# Altium schematic symbol library Senior_SCH_Lib.SchLib: 23 symbols
Pins are listed as number, name and electrical type; pins without a type are passive.

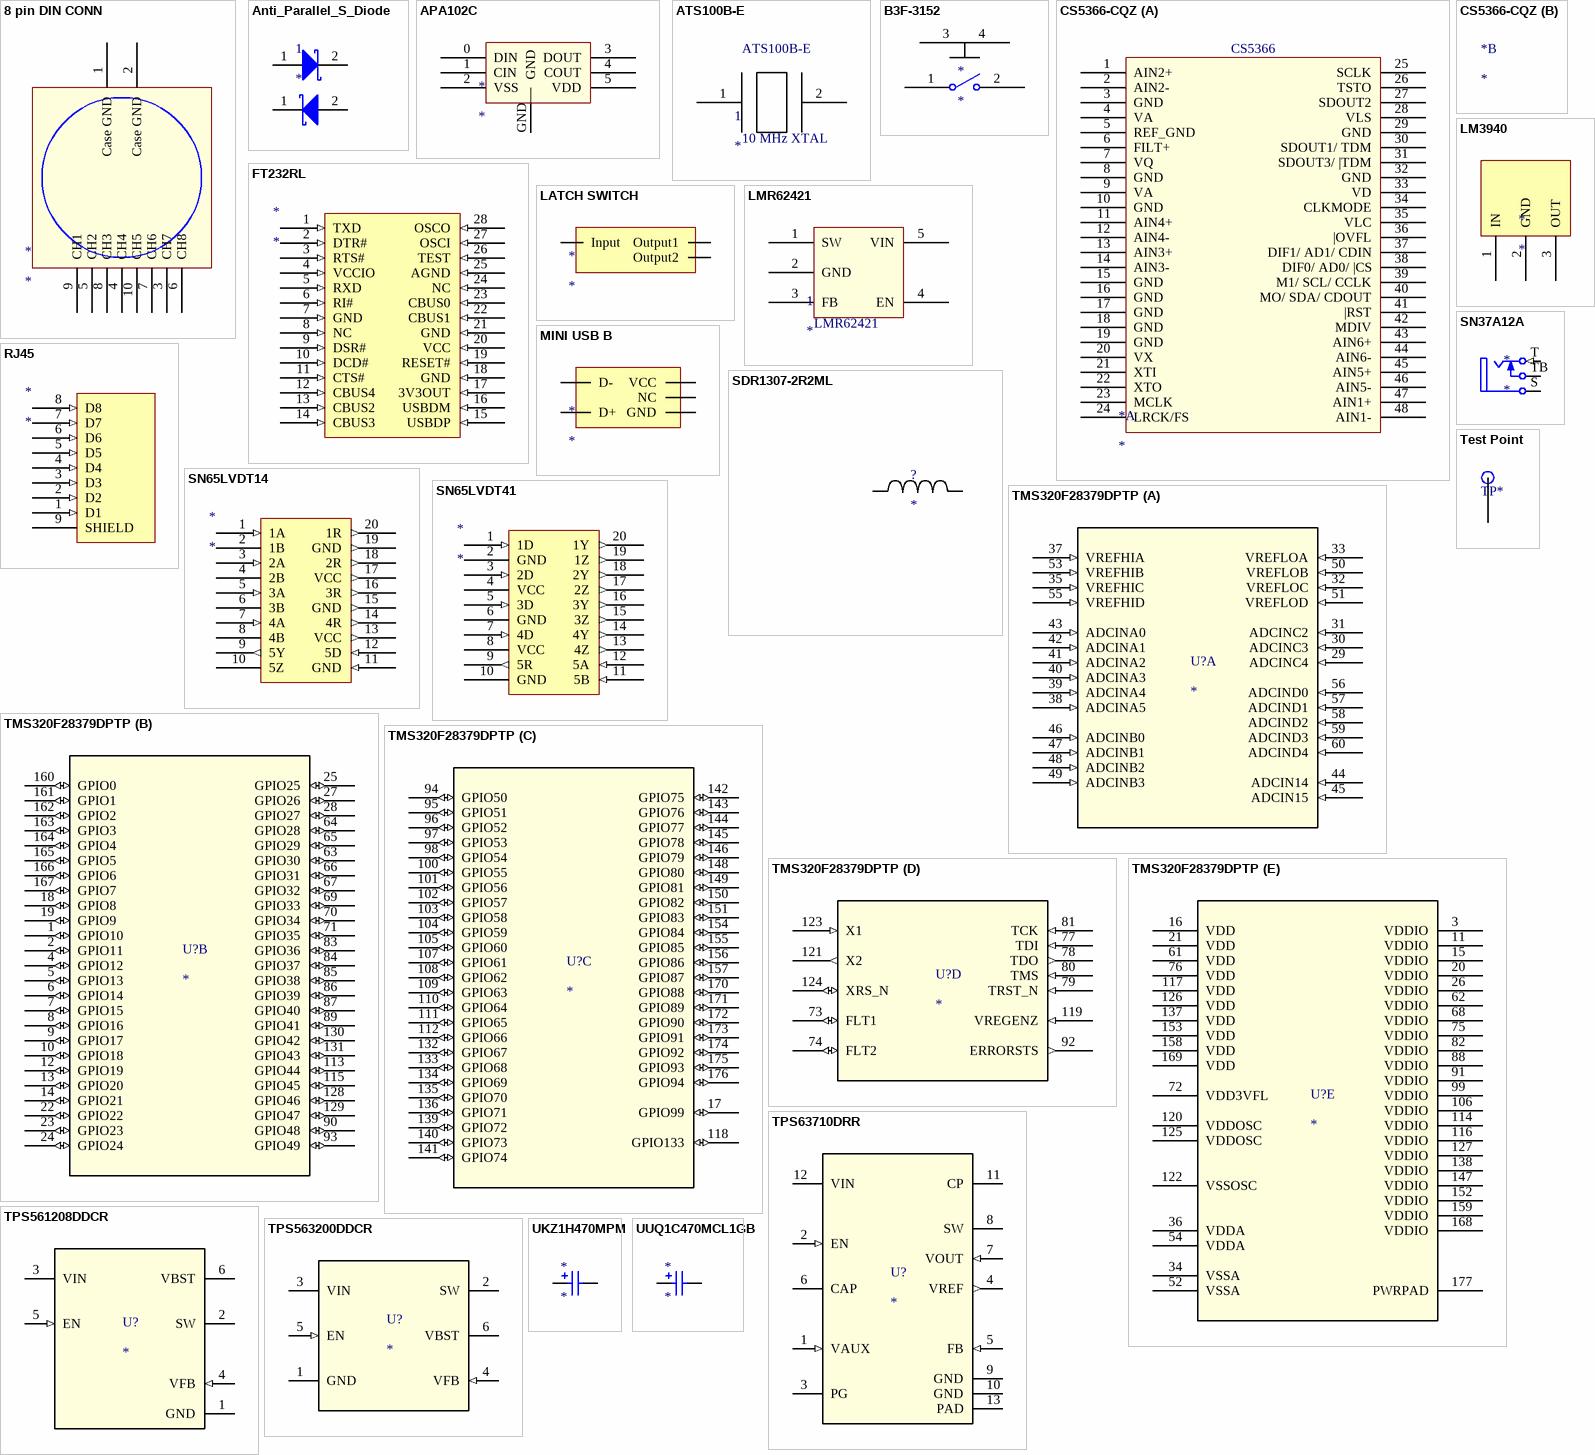
[diagram p0: symbols 8 pin DIN CONN to UUQ1C470MCL1GB]

## 8 pin DIN CONN
designator *
footprint 8 Pin DIN Conn
pins: 1 Case GND, 2 Case GND, 3 CH7, 4 CH4, 5 CH2, 6 CH8, 7 CH6, 8 CH3, 9 CH1, 10 CH5

## Anti_Parallel_S_Diode
designator 1
footprint Model Name (Footprint not found)
pins: 1 A, 1 K, 2, 2 A

## APA102C
designator *
footprint RGB LED (APA102C - 6-Pin SMT RGB LED)
pins: 0 DIN, 1 CIN, 2 VSS, 3 DOUT, 4 COUT, 5 VDD, GND

## ATS100B-E
designator 1
footprint ATS XTAL
pins: 1 51, 2 52
text: 10 MHz XTAL

## B3F-3152
designator *
footprint B3F-3152
pins: 1 3, 2 4, 3, 4

## CS5366-CQZ
designator *
footprint 48_LQFP (TSQFP, 48-Leads, Body 7.00x7.00mm, Pitch 0.60mm, IPC Medium Density)
part A pins: 1 AIN2+, 2 AIN2-, 3 GND, 4 VA, 5 REF_GND, 6 FILT+, 7 VQ, 8 GND, 9 VA, 10 GND, 11 AIN4+, 12 AIN4-, 13 AIN3+, 14 AIN3-, 15 GND, 16 GND, 17 GND, 18 GND, 19 GND, 20 VX, 21 XTI, 22 XTO, 23 MCLK, 24 LRCK/FS, 25 SCLK, 26 TSTO, 27 SDOUT2, 28 VLS, 29 GND, 30 SDOUT1/ TDM, 31 SDOUT3/ |TDM, 32 GND, 33 VD, 34 CLKMODE, 35 VLC, 36 |OVFL, 37 DIF1/ AD1/ CDIN, 38 DIF0/ AD0/ |CS, 39 M1/ SCL/ CCLK, 40 MO/ SDA/ CDOUT, 41 |RST, 42 MDIV, 43 AIN6+, 44 AIN6-, 45 AIN5+, 46 AIN5-, 47 AIN1+, 48 AIN1-
part A text: CS5366

## FT232RL
designator *
footprint FT232R (FTDI FT232R USB to UART IC)
pins: 1 TXD (in), 2 DTR# (in), 3 RTS# (in), 4 VCCIO (in), 5 RXD (in), 6 RI# (in), 7 GND (in), 8 NC (in), 9 DSR# (in), 10 DCD# (in), 11 CTS# (in), 12 CBUS4 (in), 13 CBUS2 (in), 14 CBUS3 (in), 15 USBDP (in), 16 USBDM (in), 17 3V3OUT (in), 18 GND (in), 19 RESET# (in), 20 VCC (in), 21 GND (in), 22 CBUS1 (in), 23 CBUS0 (in), 24 NC (in), 25 AGND (in), 26 TEST (in), 27 OSCI (in), 28 OSCO (in)

## LATCH SWITCH
designator *
footprint FOOTSWITCH (3PDT Latching  Solder Lug  Footswitch)
pins: 1 Input, 2 Output1, 3 Output2

## LM3940
designator *
footprint LM3940
pins: 1 IN, 2 GND, 3 OUT

## LMR62421
designator 1
footprint SOT23-6_N
pins: 1 SW, 2 GND, 3 FB, 4 EN, 5 VIN

## MINI USB B
designator *
footprint MINI USB B (Sparkfun Mini-USB B SMD Connector)
pins: 1 VCC, 2 D-, 3 D+, 4 NC, 5 GND

## RJ45
designator *
footprint RJ45 (Ethernet/Cat5e 8p8c); pin to pad 9>SGND
pins: 1 D1 (in), 2 D2 (in), 3 D3 (in), 4 D4 (in), 5 D5 (in), 6 D6 (in), 7 D7 (in), 8 D8 (in), 9 SHIELD (power)

## SDR1307-2R2ML
designator ?
Imported; Manufacturer_Part_Number: SDR1307-2R2ML; Vendor: Bourns; Manufacturer_Name: Bourns; RefDes: RefDes; TYPE: TYPE; Value: Value
footprint SDR1307
pins: 1, 2

## SN37A12A
designator *
footprint SN37A12A
pins: S (power) "Sleeve (Ground)", T (in) "Tip", TB "Tip Normal (Break Contact)"

## SN65LVDT14
designator *
footprint SN65LVDT41 (TSOP, 20-Leads, Body 6.50x4.40mm, Pitch 0.65mm, IPC Medium Density)
pins: 1 1A (in), 2 1B (power), 3 2A (in), 4 2B (power), 5 3A (in), 6 3B (power), 7 4A (in), 8 4B (power), 9 5Y (out), 10 5Z (power), 11 GND (in), 12 5D (in), 13 VCC (out), 14 4R (out), 15 GND (out), 16 3R (out), 17 VCC (out), 18 2R (out), 19 GND (out), 20 1R (out)

## SN65LVDT41
designator *
footprint SN65LVDT41 (TSOP, 20-Leads, Body 6.50x4.40mm, Pitch 0.65mm, IPC Medium Density)
pins: 1 1D (in), 2 GND (power), 3 2D (in), 4 VCC (power), 5 3D (in), 6 GND (power), 7 4D (in), 8 VCC (power), 9 5R (out), 10 GND (power), 11 5B (in), 12 5A (in), 13 4Z (out), 14 4Y (out), 15 3Z (out), 16 3Y (out), 17 2Z (out), 18 2Y (out), 19 1Z (out), 20 1Y (out)

## Test Point
designator TP*  (value not drawn)
footprint Test Point
pins: TP Test Point

## TMS320F28379DPTP
designator U?
Imported; PartNumber: TMS320F28379DPTPS; Manufacturer: Texas Instruments; RefDes: RefDes; TYPE: TYPE; Value: Value
footprint PTP0176F_N
part A pins: 29 ADCINC4 (in), 30 ADCINC3 (in), 31 ADCINC2 (in), 32 VREFLOC (in), 33 VREFLOA (in), 35 VREFHIC (in), 37 VREFHIA (in), 38 ADCINA5 (in), 39 ADCINA4 (in), 40 ADCINA3 (in), 41 ADCINA2 (in), 42 ADCINA1 (in), 43 ADCINA0 (in), 44 ADCIN14 (in), 45 ADCIN15 (in), 46 ADCINB0 (in), 47 ADCINB1 (in), 48 ADCINB2 (in), 49 ADCINB3 (in), 50 VREFLOB (in), 51 VREFLOD (in), 53 VREFHIB (in), 55 VREFHID (in), 56 ADCIND0 (in), 57 ADCIND1 (in), 58 ADCIND2 (in), 59 ADCIND3 (in), 60 ADCIND4 (in)
part B pins: 1 GPIO10 (io), 2 GPIO11 (io), 4 GPIO12 (io), 5 GPIO13 (io), 6 GPIO14 (io), 7 GPIO15 (io), 8 GPIO16 (io), 9 GPIO17 (io), 10 GPIO18 (io), 12 GPIO19 (io), 13 GPIO20 (io), 14 GPIO21 (io), 18 GPIO8 (io), 19 GPIO9 (io), 22 GPIO22 (io), 23 GPIO23 (io), 24 GPIO24 (io), 25 GPIO25 (io), 27 GPIO26 (io), 28 GPIO27 (io), 63 GPIO30 (io), 64 GPIO28 (io), 65 GPIO29 (io), 66 GPIO31 (io), 67 GPIO32 (io), 69 GPIO33 (io), 70 GPIO34 (io), 71 GPIO35 (io), 83 GPIO36 (io), 84 GPIO37 (io), 85 GPIO38 (io), 86 GPIO39 (io), 87 GPIO40 (io), 89 GPIO41 (io), 90 GPIO48 (io), 93 GPIO49 (io), 113 GPIO44 (io), 115 GPIO45 (io), 128 GPIO46 (io), 129 GPIO47 (io), 130 GPIO42 (io), 131 GPIO43 (io), 160 GPIO0 (io), 161 GPIO1 (io), 162 GPIO2 (io), 163 GPIO3 (io), 164 GPIO4 (io), 165 GPIO5 (io), 166 GPIO6 (io), 167 GPIO7 (io)
part C pins: 17 GPIO99 (io), 94 GPIO50 (io), 95 GPIO51 (io), 96 GPIO52 (io), 97 GPIO53 (io), 98 GPIO54 (io), 100 GPIO55 (io), 101 GPIO56 (io), 102 GPIO57 (io), 103 GPIO58 (io), 104 GPIO59 (io), 105 GPIO60 (io), 107 GPIO61 (io), 108 GPIO62 (io), 109 GPIO63 (io), 110 GPIO64 (io), 111 GPIO65 (io), 112 GPIO66 (io), 118 GPIO133 (io), 132 GPIO67 (io), 133 GPIO68 (io), 134 GPIO69 (io), 135 GPIO70 (io), 136 GPIO71 (io), 139 GPIO72 (io), 140 GPIO73 (io), 141 GPIO74 (io), 142 GPIO75 (io), 143 GPIO76 (io), 144 GPIO77 (io), 145 GPIO78 (io), 146 GPIO79 (io), 148 GPIO80 (io), 149 GPIO81 (io), 150 GPIO82 (io), 151 GPIO83 (io), 154 GPIO84 (io), 155 GPIO85 (io), 156 GPIO86 (io), 157 GPIO87 (io), 170 GPIO88 (io), 171 GPIO89 (io), 172 GPIO90 (io), 173 GPIO91 (io), 174 GPIO92 (io), 175 GPIO93 (io), 176 GPIO94 (io)
part D pins: 73 FLT1 (io), 74 FLT2 (io), 77 TDI (in), 78 TDO (out), 79 TRST_N (in), 80 TMS (in), 81 TCK (in), 92 ERRORSTS (out), 119 VREGENZ (in), 121 X2 (out), 123 X1 (in), 124 XRS_N (io)
part E pins: 3 VDDIO (power), 11 VDDIO (power), 15 VDDIO (power), 16 VDD (power), 20 VDDIO (power), 21 VDD (power), 26 VDDIO (power), 34 VSSA (power), 36 VDDA (power), 52 VSSA (power), 54 VDDA (power), 61 VDD (power), 62 VDDIO (power), 68 VDDIO (power), 72 VDD3VFL (power), 75 VDDIO (power), 76 VDD (power), 82 VDDIO (power), 88 VDDIO (power), 91 VDDIO (power), 99 VDDIO (power), 106 VDDIO (power), 114 VDDIO (power), 116 VDDIO (power), 117 VDD (power), 120 VDDOSC (power), 122 VSSOSC (power), 125 VDDOSC (power), 126 VDD (power), 127 VDDIO (power), 137 VDD (power), 138 VDDIO (power), 147 VDDIO (power), 152 VDDIO (power), 153 VDD (power), 158 VDD (power), 159 VDDIO (power), 168 VDDIO (power), 169 VDD (power), 177 PWRPAD (power)

## TPS63710DRR
designator U?
Imported; PartNumber: TPS63710DRR; Manufacturer: Texas Instruments; RefDes: RefDes; TYPE: TYPE; Value: Value; Manufacturer_Part_Number: TPS63710DRR; Manufacturer_Name: Texas Instruments
footprint DRR0012C
pins: 1 VAUX (in), 2 EN (in), 3 PG (oc), 4 VREF (out), 5 FB (in), 6 CAP, 7 VOUT (in), 8 SW (power), 9 GND (power), 10 GND (power), 11 CP, 12 VIN (power), 13 PAD (power)

## TPS561208DDCR
designator U?
Imported; PartNumber: TPS561208DDCR; Manufacturer: Texas Instruments; RefDes: RefDes; TYPE: TYPE; Value: Value; Manufacturer_Part_Number: TPS561208DDCR; Manufacturer_Name: Texas Instruments
footprint DDC0006A
pins: 1 GND (power), 2 SW (power), 3 VIN (power), 4 VFB (in), 5 EN (in), 6 VBST (power)

## TPS563200DDCR
designator U?
Imported; PartNumber: TPS563200DDC; Alternate_Manufacturer: None; Manufacturer: Texas Instruments; Manufacturer_Part_Number: TPS563200DDCR; CurrentTime: Not shown in title block; DocumentNumber: 1; SymbolCreator: a0411947; CompType: IC; U/M: EA; Designator: U?; PIN_COUNT: 6; CurrentDate: Not shown in title block; Time: Not shown in title block; Date: Not shown in title block; DocumentFullPathAndName: Not shown in title block; DocumentName: Not shown in title block; ModifiedDate: Not shown in title block; ApprovedBy: Not shown in title block; CheckedBy: Not shown in title block; Author: Not shown in title block; CompanyName: Not shown in title block; Engineer: Not shown in title block; Organization: Not shown in title block; Address1: Not shown in title block; Address2: Not shown in title block; Address3: Not shown in title block; Address4: Not shown in title block; Revision: Use project parameter SCH_Rev; SheetNumber: 1; SheetTotal: 1; ImagePath: Not shown in title block; Rule: *; ProjectName: *; SymbolVersion: 2014-04-11; PackageReference: DDC0006A; MountType: SMT; ComponentLink1Description: Datasheet Link; ComponentLink1URL: https://sps06.itg.ti.com/sites/KMS/crossdivteams/altium/docs/ComponentDatasheets/TPS56320xDDC_User's_Guide_v0p1_14_0203.pdf; RoHS: Y; Publisher: Texas Instruments; LatestRevisionDate: 2014-04-14; Manufacturer_Name: Texas Instruments; Value: Value; Type: Type; Refdes: Refdes
footprint DDC0006A
pins: 1 GND (power), 2 SW (power), 3 VIN (power), 4 VFB (in), 5 EN (in), 6 VBST (power)

## UKZ1H470MPM
designator *
footprint Pol Cap 5mm-10mm
pins: 1, 2

## UUQ1C470MCL1GB
designator *
footprint Pol Cap 5mm-10mm
footprint UUQ1C470MCL1GB
pins: 1, 2